# EAGLE library part MAX31855KASA+T (library max31855)
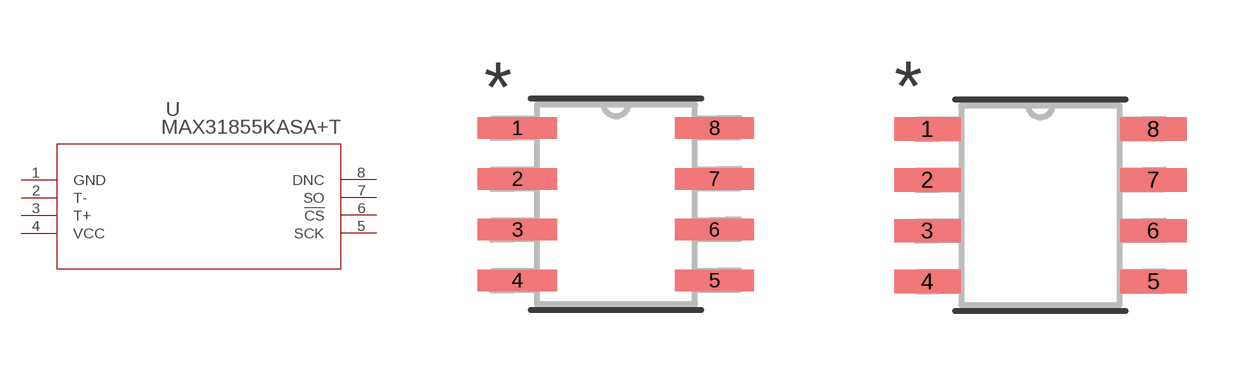
[diagram p0: symbol with the pads of 21-0041B_8; footprints 21-0041B_8, 21-0041B_8-M]

Designator prefix U

## MAX31855KASA+T (BUILT_BY: EMA_UL_Team; MANUFACTURER_PART_NUMBER: MAX31855KASA+T; VENDOR: Maxim Integrated Products)  [21-0041B_8]
1  GND  pwr
2  T-  in
3  T+  in
4  VCC  pwr
5  SCK  in
6  !CS  pas
7  SO  out
8  DNC  nc

## MAX31855KASA+T21-0041B_8-M (BUILT_BY: EMA_UL_Team; MANUFACTURER_PART_NUMBER: MAX31855KASA+T; VENDOR: Maxim Integrated Products)  [21-0041B_8-M]
Pads as for 21-0041B_8

## MAX31855KASA+T21-0041B_8-L (BUILT_BY: EMA_UL_Team; MANUFACTURER_PART_NUMBER: MAX31855KASA+T; VENDOR: Maxim Integrated Products)  [21-0041B_8-L]
Pads as for 21-0041B_8

## Footprint 21-0041B_8 (pad centres in mm)
smd 1.981 x 0.533: 1 -2.464,1.905; 2 -2.464,0.635; 3 -2.464,-0.635; 4 -2.464,-1.905; 5 2.464,-1.905; 6 2.464,-0.635; 7 2.464,0.635; 8 2.464,1.905

## Footprint 21-0041B_8-M (pad centres in mm)
smd 1.664 x 0.584: 1 -2.826,1.905; 2 -2.826,0.635; 3 -2.826,-0.635; 4 -2.826,-1.905; 5 2.826,-1.905; 6 2.826,-0.635; 7 2.826,0.635; 8 2.826,1.905

## Footprint 21-0041B_8-L (pad centres in mm)
smd 1.257 x 0.483: 1 -2.623,1.905; 2 -2.623,0.635; 3 -2.623,-0.635; 4 -2.623,-1.905; 5 2.623,-1.905; 6 2.623,-0.635; 7 2.623,0.635; 8 2.623,1.905